# EAGLE library part LM358 (library tmxk)
OP AMP also LM158; LM258; LM2904 Source: http://cache.national.com/ds/LM/LM158.pdf
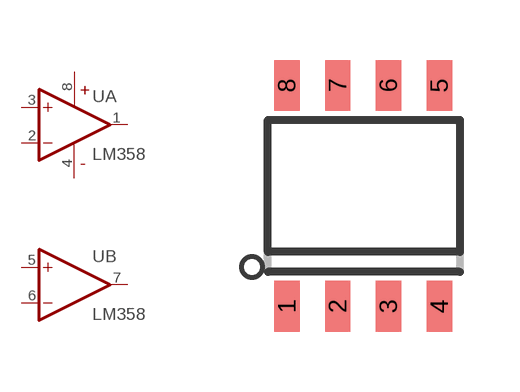
[diagram p5: symbol with the pads of SOP8; footprint SOP8]

Designator prefix U; gates A=OPAMP B=OPAMP C=PWR+-

## LM358D  [SOP8]
1  A:OUT  out
2  A:-IN  in
3  A:+IN  in
4  C:V-  pwr
5  B:+IN  in
6  B:-IN  in
7  B:OUT  out
8  C:V+  pwr

## Footprint SOP8 (pad centres in mm)
Small Outline Package 8 NS Package M08A
smd 0.635 x 1.27: 1 -1.925,-2.76; 2 -0.655,-2.76; 3 0.615,-2.76; 4 1.885,-2.76; 5 1.885,2.76; 6 0.615,2.76; 7 -0.655,2.76; 8 -1.925,2.76